# Altium schematic symbol library PCIC.SCHLIB: 1 symbol
Pins are listed as number, name and electrical type; pins without a type are passive.

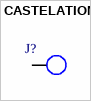
[diagram p0: symbol CASTELATION]

## CASTELATION
designator J?  (value not drawn)
CONECTOR CASTELATION; ComponentLink1Description: Datasheet; Price: 1=, 10=, 100=, 500= (USD); Library Ref: Diversos; Value: CASTELATION
pins: 1